# Altium integrated library BJTsECE.IntLib: 2 symbols
Pins are listed as number, name and electrical type; pins without a type are passive.

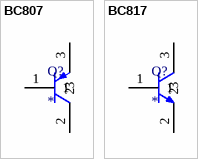
[diagram p0: symbols BC807 to BC817]

## BC807
designator Q?
BC807-40,215.  PNP GP 500MA 45V SOT23; ComponentLink1Description: Datasheet; ComponentLink1URL: https://share.engineering.auckland.ac.nz/ece/ts/Student%20Documents/BC807_BC807W_BC327.pdf
footprint SOT95P230X110-3N (SOT23, 3-Leads, Body 2.90x2.30mm, Pitch 0.95mm, IPC Medium Density)
pins: 1, 2, 3

## BC817
designator Q?
BC817-40,215. NPN GP 500 45V SOT23; ComponentLink1Description: Datasheet; ComponentLink1URL: https://share.engineering.auckland.ac.nz/ece/ts/Student%20Documents/BC817_BC817W_BC337.pdf
footprint SOT95P230X110-3N (SOT23, 3-Leads, Body 2.90x2.30mm, Pitch 0.95mm, IPC Medium Density)
pins: 1, 2, 3